# Altium schematic symbol library Molex_Connectors.SchLib: 10 symbols
Pins are listed as number, name and electrical type; pins without a type are passive.

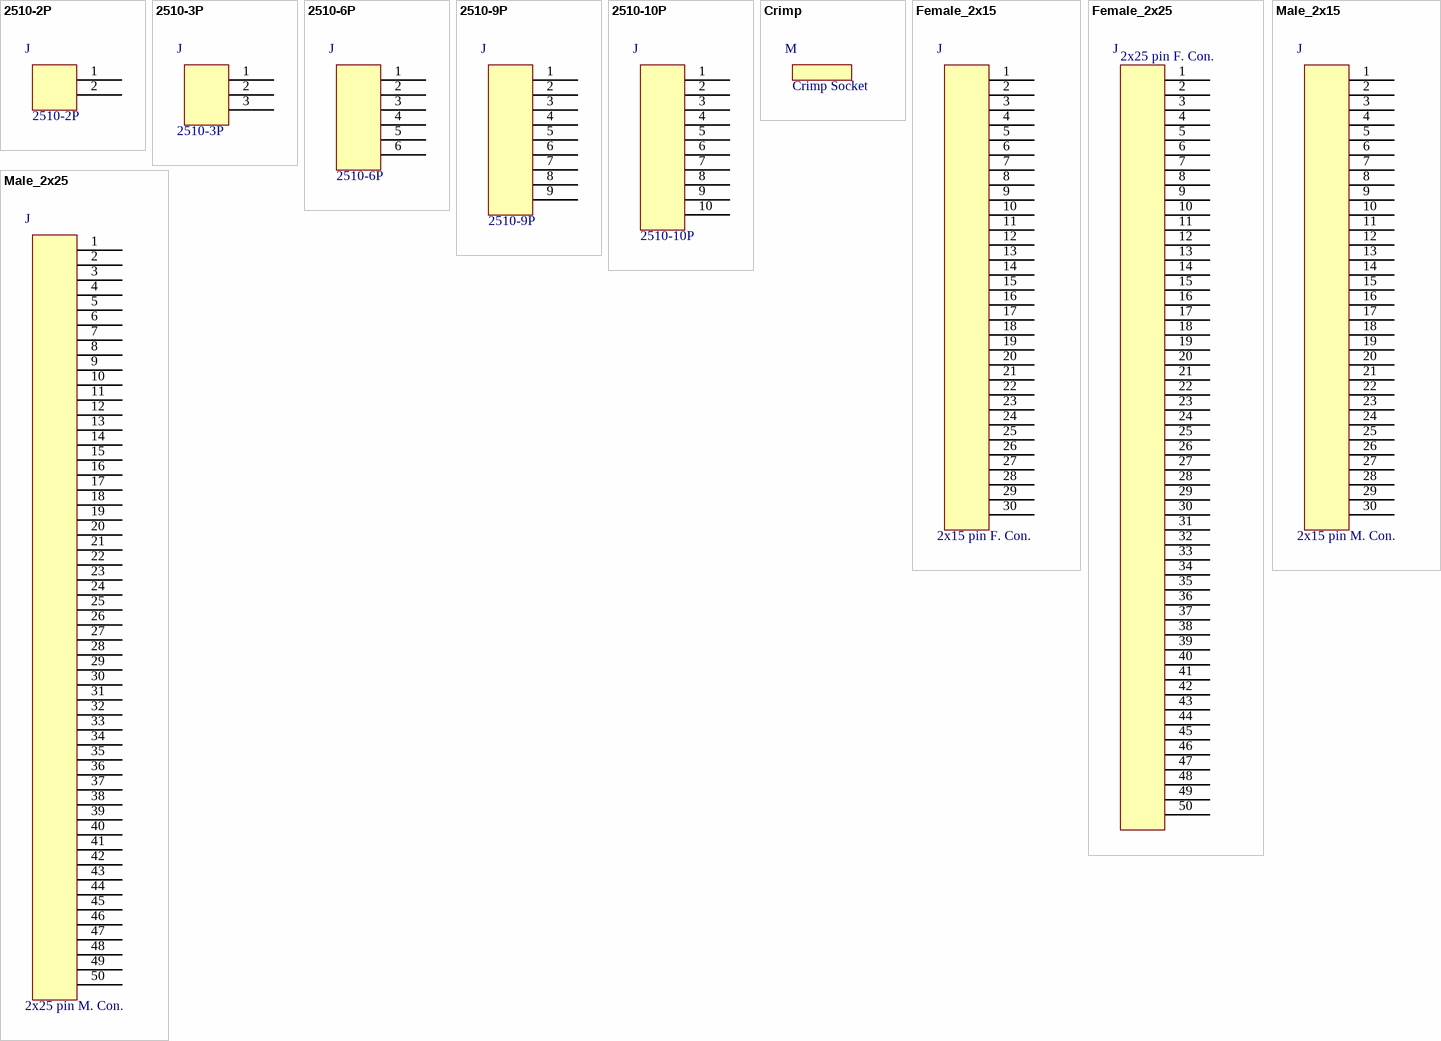
[diagram p0: symbols 2510-2P to Male_2x25]

## 2510-2P
designator J  value 2510-2P  (hidden comment: *)
Manufacturer: MOLEX; Manufacturer Code: 2510-2P
footprint 2510-2P (Footprint not found)
pins: 1, 2

## 2510-3P
designator J  value 2510-3P  (hidden comment: *)
Manufacturer: MOLEX; Manufacturer Code: 2510-3P
footprint 2510-3P (Footprint not found)
pins: 1, 2, 3

## 2510-6P
designator J  value 2510-6P  (hidden comment: *)
Manufacturer: MOLEX; Manufacturer Code: 2510-6P
footprint 2510-6P (Footprint not found)
pins: 1, 2, 3, 4, 5, 6

## 2510-9P
designator J  value 2510-9P  (hidden comment: *)
Manufacturer Code: 2010-9P; Manufacturer: MOLEX
footprint 2510-9P (Footprint not found)
pins: 1, 2, 3, 4, 5, 6, 7, 8, 9

## 2510-10P
designator J  value 2510-10P  (hidden comment: *)
Manufacturer: MOLEX; Manufacturer Code: 2510-10P
footprint 2510-10P (Footprint not found)
pins: 1, 2, 3, 4, 5, 6, 7, 8, 9, 10

## Crimp
designator M  value Crimp Socket  (hidden comment: *)  (net tie)
Manufacturer: MOLEX; Manufacturer Code: 90119-2121; Farnell Code: 9733280; Unit Price: 0,128 €

## Female_2x15
designator J  value 2x15 pin F. Con.  (hidden comment: *)  (net tie)
Manufacturer Code: 90142-0030; Manufacturer: MOLEX; Unit Price: 1,92 $; Digikey Code: WM8046-ND
pins: 1, 2, 3, 4, 5, 6, 7, 8, 9, 10, 11, 12, 13, 14, 15, 16, 17, 18, 19, 20, 21, 22, 23, 24, 25, 26, 27, 28, 29, 30

## Female_2x25
designator J  value 2x25 pin F. Con.  (hidden comment: *)
Manufacturer: MOLEX; Manufacturer Code: 90142-0050; Digikey Code: WM8052-ND; Unit Price: 3,06 $
pins: 1, 2, 3, 4, 5, 6, 7, 8, 9, 10, 11, 12, 13, 14, 15, 16, 17, 18, 19, 20, 21, 22, 23, 24, 25, 26, 27, 28, 29, 30, 31, 32, 33, 34, 35, 36, 37, 38, 39, 40, 41, 42, 43, 44, 45, 46, 47, 48, 49, 50

## Male_2x15
designator J  value 2x15 pin M. Con.  (hidden comment: *)
Manufacturer: MOLEX; Manufacturer Code: 90130-1130; Digikey Code: WM8243-ND; Unit Price: 4,17 $
footprint 2x30 HEADER
pins: 1, 2, 3, 4, 5, 6, 7, 8, 9, 10, 11, 12, 13, 14, 15, 16, 17, 18, 19, 20, 21, 22, 23, 24, 25, 26, 27, 28, 29, 30

## Male_2x25
designator J  value 2x25 pin M. Con.  (hidden comment: *)
Manufacturer Code: 90130-1150; Manufacturer: MOLEX; Unit Price: 5,18 $; Digikey Code: WM8246-ND
footprint 2x50 HEADER
pins: 1, 2, 3, 4, 5, 6, 7, 8, 9, 10, 11, 12, 13, 14, 15, 16, 17, 18, 19, 20, 21, 22, 23, 24, 25, 26, 27, 28, 29, 30, 31, 32, 33, 34, 35, 36, 37, 38, 39, 40, 41, 42, 43, 44, 45, 46, 47, 48, 49, 50